# EAGLE library part 05339805711 (library volks73-Molex)
1.25mm Pitch PicoBlade™ Header, Surface Mount, Vertical, 6 Circuits PicoBlade™ Connector System Documentation Drawing <http://www.molex.com/pdm_docs/sd/533980571_sd.pdf>
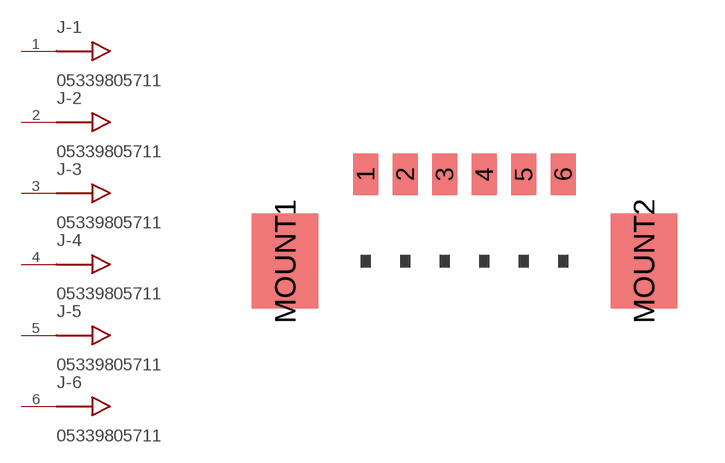
[diagram p1: symbol with the pads of PICOBLADE53398-0671; footprint PICOBLADE53398-0671]

Designator prefix J; gates -1=MALE_CONNECTOR -2=MALE_CONNECTOR -3=MALE_CONNECTOR -4=MALE_CONNECTOR -5=MALE_CONNECTOR -6=MALE_CONNECTOR

## 05339805711 (CATEGORY: Connectors, Interconnects; COLOR: Natural; CONNECTOR_TYPE: Header, Shrouded; CONTACT_FINISH: Tin; CONTACT_FINISH_THICKNESS: 39µin (1.00µm); CONTACT_MATING_LENGTH: -; CONTACT_TYPE: Blade Pin; DESCRIPTION: CONN HEADER 6POS 1.25MM VERT SMD; DOCUMENTATION_LINK: <a href="http://www.molex.com/pdm_docs/sd/533980571_sd.pdf">Drawing</a>; DOCUMENTATION_URL: http://www.molex.com/pdm_docs/sd/533980571_sd.pdf; FAMILY: Rectangular Connectors - Headers, Male Pins; FASTENING_TYPE: -; FEATURES: Solder Retention; MANUFACTURER: Molex Inc; MOUNTING_TYPE: Surface Mount; NUMBER_OF_POSITIONS: 5; NUMBER_OF_POSITIONS_LOADED: All; NUMBER_OF_ROWS: 1; PART_NUMBER: 05339805711; PITCH: 0.049" (1.25mm); ROW_SPACING: -; SERIES: PicoBlade™ 53398; SUPPLIER_ITEM_LINK: <a href="http://www.digikey.com/product-detail/en/0533980571/WM7609CT-ND/699083">Details</a>; SUPPLIER_ITEM_NUMBER: WM7609CT-ND; SUPPLIER_ITEM_URL: http://www.digikey.com/product-detail/en/0533980571/WM7609CT-ND/699083; SUPPLIER_LINK: <a href="http://www.digikey.com">Home Page</a>; SUPPLIER_NAME: Digi-key; SUPPLIER_URL: http://www.digikey.com; TERMINATION: Solder)  [PICOBLADE53398-0671]
1  -1:P$1
2  -2:P$1
3  -3:P$1
4  -4:P$1
5  -5:P$1
6  -6:P$1

## Footprint PICOBLADE53398-0671 (pad centres in mm)
6-Pin Surface Mount, Vertical, Male Header PicoBlade™ 53398 Series, Single Row, 0.049" (1.25mm) Pitch Maximum Current Rating: 1.0A (per channel)
smd 0.8 x 1.3: 1 -2.5,2.75; 2 -1.25,2.75; 3 0,2.75; 4 1.25,2.75; 5 2.5,2.75; 6 3.75,2.75
smd 2.1 x 3: MOUNT1 -5.05,0; MOUNT2 6.3,0